# Altium integrated library Linear Technology Power Management LDO Linear Regulators.IntLib: 2339 symbols (part 100 of 131)
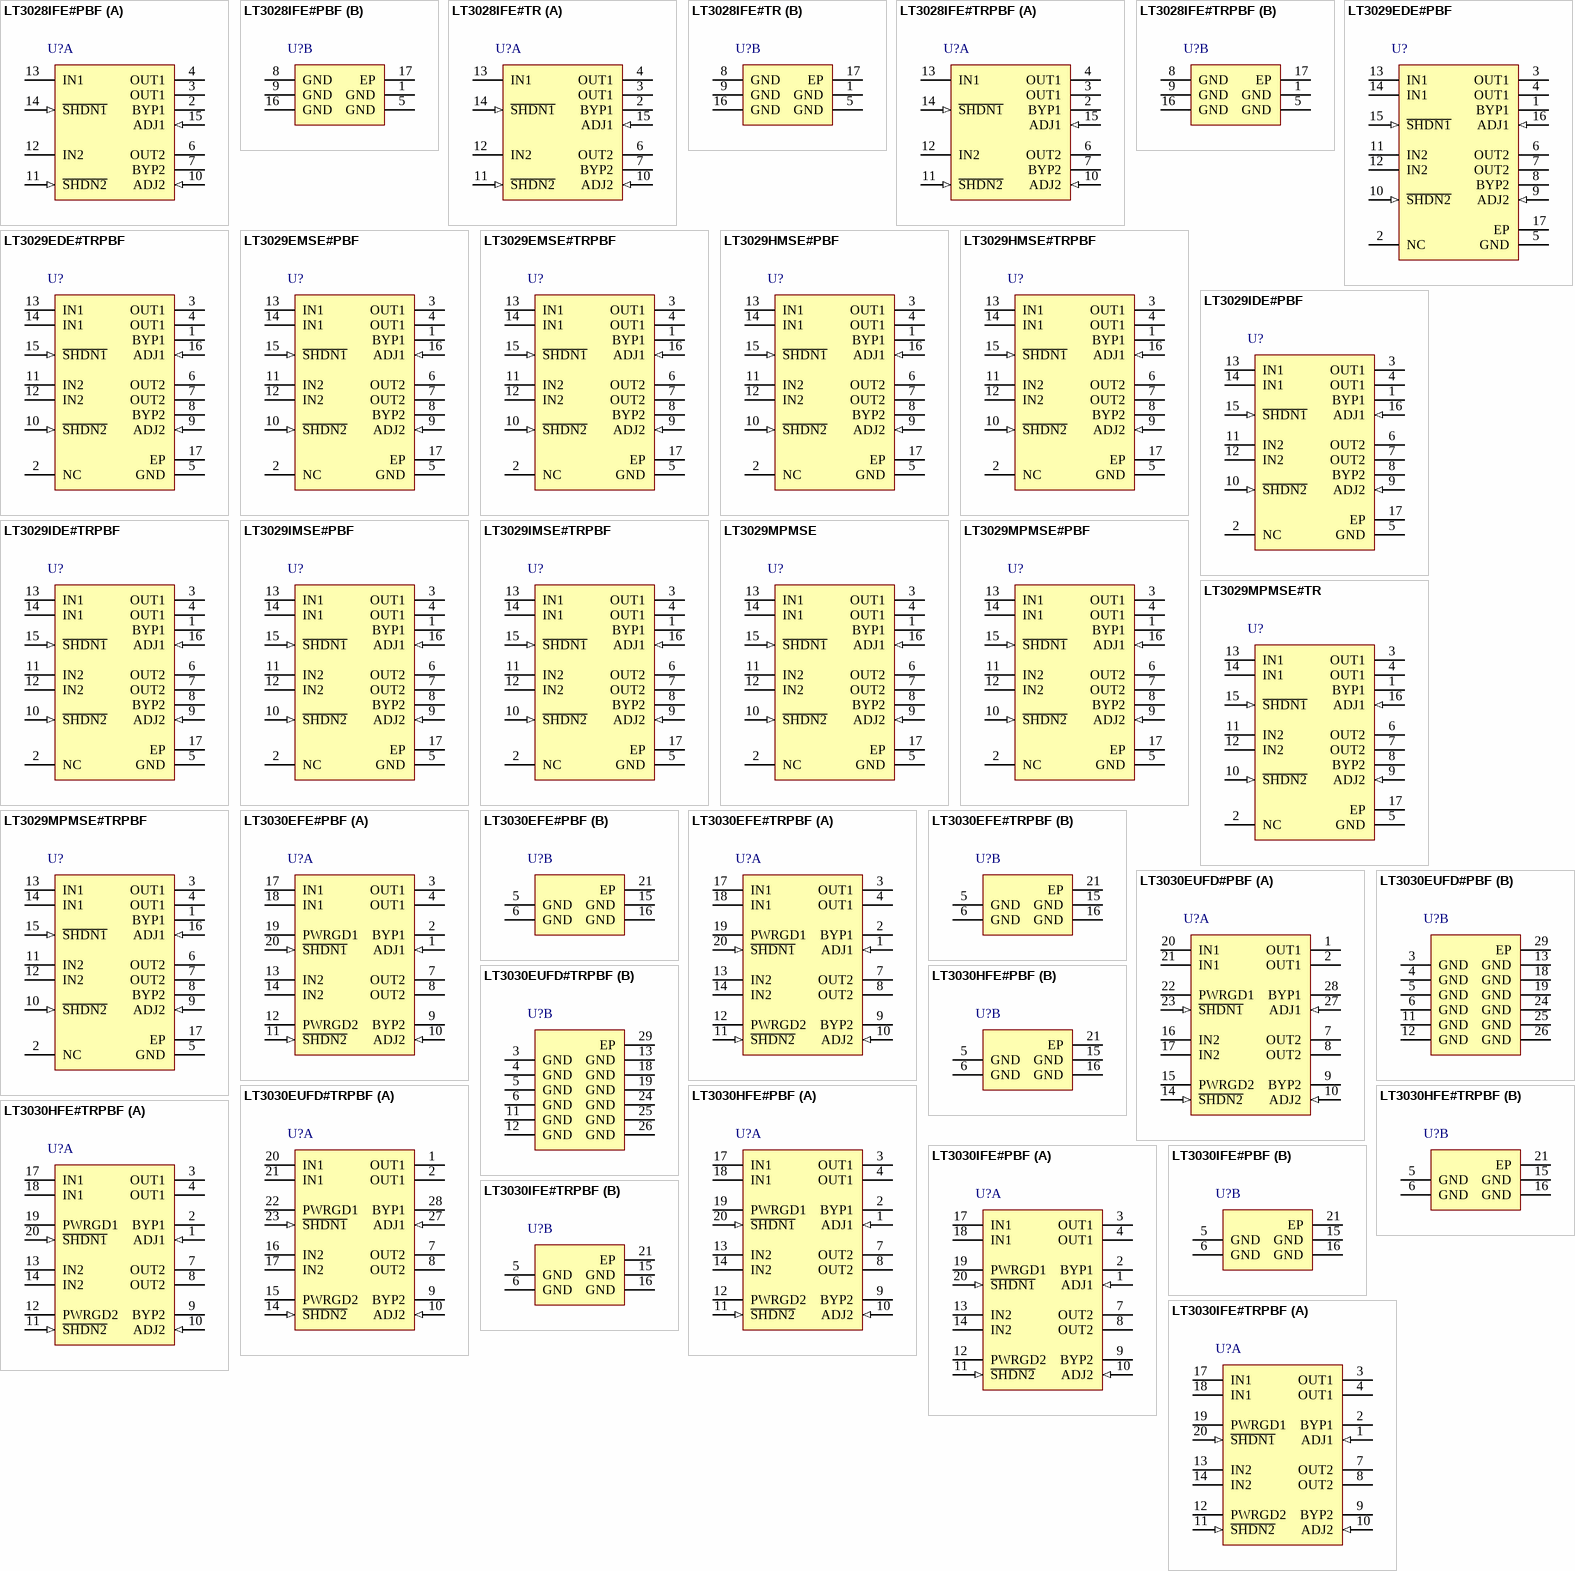
[diagram p168: symbols LT3028IFE#PBF to LT3030IFE#TRPBF]

## LT3028IFE#TRPBF
designator U?
Dual 100 mA / 500 mA Low Dropout, Low Noise, Micropower Regulator with Independent Inputs, 1.8 to 20 V Vin, Adjustable Vout, 16-pin SOP (FE-16-EPV-BB), -40 to 125 degC, Pb-Free, Tape and Reel; Manufacturer: Linear Technology; PartNumber: LT3028IFE#TRPBF; Discrete Pass Element: no; Dropout Voltage(V): 0.32; Iout(mA): 500; Isupply(mA): 0.03; Noise(uV): 20; Number of Outputs: 2; Output Voltage: Adj; PSRR(dB): 65; Shutdown Current(uA): 0.01; Vin Min(V): 1.8; Vout Min(V): 1.22; PackageVersion: Rev. J, 11/2012; PackageReference: FE-16; PackageDescription: 16-Pin Plastic TSSOP, Body 5 x 4.4 mm, Pitch 0.65 mm; Supplier 1: Digi-Key; Supplier Part Number 1: LT3028IFE#TRPBF-ND; Packing: Tape and Reel; RoHS: TRUE; Vin Max(V): 20; Vout Max(V): 20; Mounting Technology: Surface Mount; ComponentLink1Description: Manufacturer URL; ComponentLink1URL: http://www.linear.com/; ComponentLink2Description: Datasheet; ComponentLink2URL: http://cds.linear.com/docs/en/datasheet/3028f.pdf; ComponentLink3Description: Package Specification; ComponentLink3URL: http://cds.linear.com/docs/en/packaging/05081663__J_FE16(BB).pdf
footprint LT-FE-16-EPV-BB_N (SOP, 16-Leads, Body 5.1x4.5mm, Pitch 0.65mm, Thermal Pad 3.58x2.94mm, IPC Medium Density)
footprint LT-FE-16-EPV-BB_L (SOP, 16-Leads, Body 5.1x4.5mm, Pitch 0.65mm, Thermal Pad 3.58x2.94mm, IPC High Density)
footprint LT-FE-16-EPV-BB_M (SOP, 16-Leads, Body 5.1x4.5mm, Pitch 0.65mm, Thermal Pad 3.58x2.94mm, IPC Low Density)
part A pins: 2 BYP1 "Bypass. The BYP1/BYP2 pins are used to bypass the reference of the LT3028 regulator to achieve low noise performance from the regulator. The BYP1/BYP2 pins are clamped internally to +/-0.6V (one VBE) from ground. A small (See Datasheet)", 3 OUT1 (power) "Output. The outputs supply power to the loads. A minimum output capacitor of 1uF is required to prevent oscillations on Output 2; Output 1 requires a minimum of 3.3uF. Larger output capacitors will be required for (See Datasheet)", 4 OUT1 (power) "Output. The outputs supply power to the loads. A minimum output capacitor of 1uF is required to prevent oscillations on Output 2; Output 1 requires a minimum of 3.3uF. Larger output capacitors will be required for (See Datasheet)", 6 OUT2 (power) "Output. The outputs supply power to the loads. A minimum output capacitor of 1uF is required to prevent oscillations on Output 2; Output 1 requires a minimum of 3.3uF. Larger output capacitors will be required for (See Datasheet)", 7 BYP2 "Bypass. The BYP1/BYP2 pins are used to bypass the reference of the LT3028 regulator to achieve low noise performance from the regulator. The BYP1/BYP2 pins are clamped internally to +/-0.6V (one VBE) from ground. A small (See Datasheet)", 10 ADJ2 (in) "Adjust Pin. These are the inputs to the error amplifiers. These pins are internally clamped to +/-7V. They have a bias current of 30nA which flows into the pin (see curve of ADJ1/ADJ2 Pin Bias Current vs Temperature in the (See Datasheet)", 11 ~{SHDN2} (in) "Shutdown. The S\H\D\N\1\/S\H\D\N\2\ pins are used to put the corresponding output of the LT3028 regulator into a low power shutdown state. The output will be off when the pin is pulled low. The S\H\D\N\1\/S\H\D\N\2\ pins can (See Datasheet)", 12 IN2 (power) "Inputs. Power is supplied to the device through the IN pins. A bypass capacitor is required on these pins if the device is more than six inches away from the main input filter capacitor. In general, the output impedance of a (See Datasheet)", 13 IN1 (power) "Inputs. Power is supplied to the device through the IN pins. A bypass capacitor is required on these pins if the device is more than six inches away from the main input filter capacitor. In general, the output impedance of a (See Datasheet)", 14 ~{SHDN1} (in) "Shutdown. The S\H\D\N\1\/S\H\D\N\2\ pins are used to put the corresponding output of the LT3028 regulator into a low power shutdown state. The output will be off when the pin is pulled low. The S\H\D\N\1\/S\H\D\N\2\ pins can (See Datasheet)", 15 ADJ1 (in) "Adjust Pin. These are the inputs to the error amplifiers. These pins are internally clamped to +/-7V. They have a bias current of 30nA which flows into the pin (see curve of ADJ1/ADJ2 Pin Bias Current vs Temperature in the (See Datasheet)"
part B pins: 1 GND (power) "Ground.", 5 GND (power) "Ground.", 8 GND (power) "Ground.", 9 GND (power) "Ground.", 16 GND (power) "Ground.", 17 EP (power) "Ground. The Exposed Pad must be soldered to PCB ground for optimum thermal performance."

## LT3029EDE#PBF
designator U?
Dual 500 mA / 500 mA Low Dropout, Low Noise Micropower Linear Regulator, 1.8 to 20 V Vin, Adjustable Vout, 16-pin SON (DE-16), -40 to 125 degC, Pb-Free; Manufacturer: Linear Technology; PartNumber: LT3029EDE#PBF; Discrete Pass Element: no; Dropout Voltage(V): 0.3; Iout(mA): 500; Isupply(mA): 0.055; Noise(uV): 20; Number of Outputs: 2; Output Voltage: Adj; PSRR(dB): 67; Shutdown Current(uA): 0.6; Vin Min(V): 1.8; Vout Max(V): 19.5; Vout Min(V): 1.215; DatasheetVersion: Rev. A; PackageVersion: Rev. Ø, 06/2010; PackageReference: DE-16; PackageDescription: 16-Pin Plastic DFN, Body 4 x 3 mm, Pitch 0.45 mm; Supplier 1: Digi-Key; Supplier Part Number 1: LT3029EDE#PBF-ND; Supplier 2: Farnell; Supplier Part Number 2: 1839122; Supplier 3: Newark; Supplier Part Number 3: 64R6814; RoHS: TRUE; Vin Max(V): 20; Mounting Technology: Surface Mount; Code_JEDEC: MO-229; ComponentLink1Description: Manufacturer URL; ComponentLink1URL: http://www.linear.com/; ComponentLink2Description: Datasheet; ComponentLink2URL: http://cds.linear.com/docs/en/datasheet/3029fa.pdf; ComponentLink3Description: Package Specification; ComponentLink3URL: http://cds.linear.com/docs/en/packaging/DFN_16_05-08-1732.pdf
footprint LT-DE-16_V (SON, 16-Leads, Body 4x3mm, Pitch 0.45mm, Thermal Pad 3.3x1.7mm)
pins: 1 BYP1, 2 NC, 3 OUT1 (power), 4 OUT1 (power), 5 GND (power), 6 OUT2 (power), 7 OUT2 (power), 8 BYP2, 9 ADJ2 (in), 10 ~{SHDN2} (in), 11 IN2 (power), 12 IN2 (power), 13 IN1 (power), 14 IN1 (power), 15 ~{SHDN1} (in), 16 ADJ1 (in), 17 EP (power)

## LT3029EDE#TRPBF
designator U?
Dual 500 mA / 500 mA Low Dropout, Low Noise Micropower Linear Regulator, 1.8 to 20 V Vin, Adjustable Vout, 16-pin SON (DE-16), -40 to 125 degC, Pb-Free, Tape and Reel; Manufacturer: Linear Technology; PartNumber: LT3029EDE#TRPBF; Discrete Pass Element: no; Dropout Voltage(V): 0.3; Iout(mA): 500; Isupply(mA): 0.055; Noise(uV): 20; Number of Outputs: 2; Output Voltage: Adj; PSRR(dB): 67; Shutdown Current(uA): 0.6; Vin Min(V): 1.8; Vout Max(V): 19.5; Vout Min(V): 1.215; DatasheetVersion: Rev. A; PackageVersion: Rev. Ø, 06/2010; PackageReference: DE-16; PackageDescription: 16-Pin Plastic DFN, Body 4 x 3 mm, Pitch 0.45 mm; Supplier 1: Digi-Key; Supplier Part Number 1: LT3029EDE#TRPBF-ND; Supplier 2: Newark; Supplier Part Number 2: 64R6815; Packing: Tape and Reel; RoHS: TRUE; Vin Max(V): 20; Mounting Technology: Surface Mount; Code_JEDEC: MO-229; ComponentLink1Description: Manufacturer URL; ComponentLink1URL: http://www.linear.com/; ComponentLink2Description: Datasheet; ComponentLink2URL: http://cds.linear.com/docs/en/datasheet/3029fa.pdf; ComponentLink3Description: Package Specification; ComponentLink3URL: http://cds.linear.com/docs/en/packaging/DFN_16_05-08-1732.pdf
footprint LT-DE-16_V (SON, 16-Leads, Body 4x3mm, Pitch 0.45mm, Thermal Pad 3.3x1.7mm)
pins: 1 BYP1, 2 NC, 3 OUT1 (power), 4 OUT1 (power), 5 GND (power), 6 OUT2 (power), 7 OUT2 (power), 8 BYP2, 9 ADJ2 (in), 10 ~{SHDN2} (in), 11 IN2 (power), 12 IN2 (power), 13 IN1 (power), 14 IN1 (power), 15 ~{SHDN1} (in), 16 ADJ1 (in), 17 EP (power)

## LT3029EMSE#PBF
designator U?
Dual 500 mA / 500 mA Low Dropout, Low Noise Micropower Linear Regulator, 1.8 to 20 V Vin, Adjustable Vout, 16-pin SOP (MSE-16-EDP), -40 to 125 degC, Pb-Free; Manufacturer: Linear Technology; PartNumber: LT3029EMSE#PBF; Discrete Pass Element: no; Dropout Voltage(V): 0.3; Iout(mA): 500; Isupply(mA): 0.055; Noise(uV): 20; Number of Outputs: 2; Output Voltage: Adj; PSRR(dB): 67; Shutdown Current(uA): 0.6; Vin Min(V): 1.8; Vout Max(V): 19.5; Vout Min(V): 1.215; DatasheetVersion: Rev. A; PackageVersion: Rev. F, 05/2013; PackageReference: MSE-16; PackageDescription: 16-Pin Plastic MSOP, Exposed Die Pad, Body 4.039 x 3 mm, Pitch 0.5 mm; Supplier 1: Digi-Key; Supplier Part Number 1: LT3029EMSE#PBF-ND; Supplier 2: Farnell; Supplier Part Number 2: 1839124; Supplier 3: Newark; Supplier Part Number 3: 64R6816; RoHS: TRUE; Vin Max(V): 20; Mounting Technology: Surface Mount; ComponentLink1Description: Manufacturer URL; ComponentLink1URL: http://www.linear.com/; ComponentLink2Description: Datasheet; ComponentLink2URL: http://cds.linear.com/docs/en/datasheet/3029fa.pdf; ComponentLink3Description: Package Specification; ComponentLink3URL: http://cds.linear.com/docs/en/packaging/05081667_F_MSE16.pdf
footprint LT-MSE-16-EDP_N (SOP, 16-Leads, Body 4.039x3mm, Pitch 0.5mm, Thermal Pad 2.95x1.76mm, IPC Medium Density)
footprint LT-MSE-16-EDP_L (SOP, 16-Leads, Body 4.039x3mm, Pitch 0.5mm, Thermal Pad 2.95x1.76mm, IPC High Density)
footprint LT-MSE-16-EDP_M (SOP, 16-Leads, Body 4.039x3mm, Pitch 0.5mm, Thermal Pad 2.95x1.76mm, IPC Low Density)
pins: 1 BYP1, 2 NC, 3 OUT1 (power), 4 OUT1 (power), 5 GND (power), 6 OUT2 (power), 7 OUT2 (power), 8 BYP2, 9 ADJ2 (in), 10 ~{SHDN2} (in), 11 IN2 (power), 12 IN2 (power), 13 IN1 (power), 14 IN1 (power), 15 ~{SHDN1} (in), 16 ADJ1 (in), 17 EP (power)

## LT3029EMSE#TRPBF
designator U?
Dual 500 mA / 500 mA Low Dropout, Low Noise Micropower Linear Regulator, 1.8 to 20 V Vin, Adjustable Vout, 16-pin SOP (MSE-16-EDP), -40 to 125 degC, Pb-Free, Tape and Reel; Manufacturer: Linear Technology; PartNumber: LT3029EMSE#TRPBF; Discrete Pass Element: no; Dropout Voltage(V): 0.3; Iout(mA): 500; Isupply(mA): 0.055; Noise(uV): 20; Number of Outputs: 2; Output Voltage: Adj; PSRR(dB): 67; Shutdown Current(uA): 0.6; Vin Min(V): 1.8; Vout Max(V): 19.5; Vout Min(V): 1.215; DatasheetVersion: Rev. A; PackageVersion: Rev. F, 05/2013; PackageReference: MSE-16; PackageDescription: 16-Pin Plastic MSOP, Exposed Die Pad, Body 4.039 x 3 mm, Pitch 0.5 mm; Supplier 1: Digi-Key; Supplier Part Number 1: LT3029EMSE#TRPBF-ND; Supplier 2: Newark; Supplier Part Number 2: 64R6817; Packing: Tape and Reel; RoHS: TRUE; Vin Max(V): 20; Mounting Technology: Surface Mount; ComponentLink1Description: Manufacturer URL; ComponentLink1URL: http://www.linear.com/; ComponentLink2Description: Datasheet; ComponentLink2URL: http://cds.linear.com/docs/en/datasheet/3029fa.pdf; ComponentLink3Description: Package Specification; ComponentLink3URL: http://cds.linear.com/docs/en/packaging/05081667_F_MSE16.pdf
footprint LT-MSE-16-EDP_N (SOP, 16-Leads, Body 4.039x3mm, Pitch 0.5mm, Thermal Pad 2.95x1.76mm, IPC Medium Density)
footprint LT-MSE-16-EDP_L (SOP, 16-Leads, Body 4.039x3mm, Pitch 0.5mm, Thermal Pad 2.95x1.76mm, IPC High Density)
footprint LT-MSE-16-EDP_M (SOP, 16-Leads, Body 4.039x3mm, Pitch 0.5mm, Thermal Pad 2.95x1.76mm, IPC Low Density)
pins: 1 BYP1, 2 NC, 3 OUT1 (power), 4 OUT1 (power), 5 GND (power), 6 OUT2 (power), 7 OUT2 (power), 8 BYP2, 9 ADJ2 (in), 10 ~{SHDN2} (in), 11 IN2 (power), 12 IN2 (power), 13 IN1 (power), 14 IN1 (power), 15 ~{SHDN1} (in), 16 ADJ1 (in), 17 EP (power)

## LT3029HMSE#PBF
designator U?
Dual 500 mA / 500 mA Low Dropout, Low Noise Micropower Linear Regulator, 1.8 to 20 V Vin, Adjustable Vout, 16-pin SOP (MSE-16-EDP), -40 to 150 degC, Pb-Free; Manufacturer: Linear Technology; PartNumber: LT3029HMSE#PBF; Discrete Pass Element: no; Dropout Voltage(V): 0.3; Iout(mA): 500; Isupply(mA): 0.055; Noise(uV): 20; Number of Outputs: 2; Output Voltage: Adj; PSRR(dB): 67; Shutdown Current(uA): 0.6; Vin Min(V): 1.8; Vout Max(V): 19.5; Vout Min(V): 1.215; DatasheetVersion: Rev. A; PackageVersion: Rev. F, 05/2013; PackageReference: MSE-16; PackageDescription: 16-Pin Plastic MSOP, Exposed Die Pad, Body 4.039 x 3 mm, Pitch 0.5 mm; Supplier 1: Digi-Key; Supplier Part Number 1: LT3029HMSE#PBF-ND; Supplier 2: Farnell; Supplier Part Number 2: 2295262; Supplier 3: Newark; Supplier Part Number 3: 64R6818; RoHS: TRUE; Vin Max(V): 20; Mounting Technology: Surface Mount; ComponentLink1Description: Manufacturer URL; ComponentLink1URL: http://www.linear.com/; ComponentLink2Description: Datasheet; ComponentLink2URL: http://cds.linear.com/docs/en/datasheet/3029fa.pdf; ComponentLink3Description: Package Specification; ComponentLink3URL: http://cds.linear.com/docs/en/packaging/05081667_F_MSE16.pdf
footprint LT-MSE-16-EDP_N (SOP, 16-Leads, Body 4.039x3mm, Pitch 0.5mm, Thermal Pad 2.95x1.76mm, IPC Medium Density)
footprint LT-MSE-16-EDP_L (SOP, 16-Leads, Body 4.039x3mm, Pitch 0.5mm, Thermal Pad 2.95x1.76mm, IPC High Density)
footprint LT-MSE-16-EDP_M (SOP, 16-Leads, Body 4.039x3mm, Pitch 0.5mm, Thermal Pad 2.95x1.76mm, IPC Low Density)
pins: 1 BYP1, 2 NC, 3 OUT1 (power), 4 OUT1 (power), 5 GND (power), 6 OUT2 (power), 7 OUT2 (power), 8 BYP2, 9 ADJ2 (in), 10 ~{SHDN2} (in), 11 IN2 (power), 12 IN2 (power), 13 IN1 (power), 14 IN1 (power), 15 ~{SHDN1} (in), 16 ADJ1 (in), 17 EP (power)

## LT3029HMSE#TRPBF
designator U?
Dual 500 mA / 500 mA Low Dropout, Low Noise Micropower Linear Regulator, 1.8 to 20 V Vin, Adjustable Vout, 16-pin SOP (MSE-16-EDP), -40 to 150 degC, Pb-Free, Tape and Reel; Manufacturer: Linear Technology; PartNumber: LT3029HMSE#TRPBF; Discrete Pass Element: no; Dropout Voltage(V): 0.3; Iout(mA): 500; Isupply(mA): 0.055; Noise(uV): 20; Number of Outputs: 2; Output Voltage: Adj; PSRR(dB): 67; Shutdown Current(uA): 0.6; Vin Min(V): 1.8; Vout Max(V): 19.5; Vout Min(V): 1.215; DatasheetVersion: Rev. A; PackageVersion: Rev. F, 05/2013; PackageReference: MSE-16; PackageDescription: 16-Pin Plastic MSOP, Exposed Die Pad, Body 4.039 x 3 mm, Pitch 0.5 mm; Supplier 1: Digi-Key; Supplier Part Number 1: LT3029HMSE#TRPBF-ND; Packing: Tape and Reel; RoHS: TRUE; Vin Max(V): 20; Mounting Technology: Surface Mount; ComponentLink1Description: Manufacturer URL; ComponentLink1URL: http://www.linear.com/; ComponentLink2Description: Datasheet; ComponentLink2URL: http://cds.linear.com/docs/en/datasheet/3029fa.pdf; ComponentLink3Description: Package Specification; ComponentLink3URL: http://cds.linear.com/docs/en/packaging/05081667_F_MSE16.pdf
footprint LT-MSE-16-EDP_N (SOP, 16-Leads, Body 4.039x3mm, Pitch 0.5mm, Thermal Pad 2.95x1.76mm, IPC Medium Density)
footprint LT-MSE-16-EDP_L (SOP, 16-Leads, Body 4.039x3mm, Pitch 0.5mm, Thermal Pad 2.95x1.76mm, IPC High Density)
footprint LT-MSE-16-EDP_M (SOP, 16-Leads, Body 4.039x3mm, Pitch 0.5mm, Thermal Pad 2.95x1.76mm, IPC Low Density)
pins: 1 BYP1, 2 NC, 3 OUT1 (power), 4 OUT1 (power), 5 GND (power), 6 OUT2 (power), 7 OUT2 (power), 8 BYP2, 9 ADJ2 (in), 10 ~{SHDN2} (in), 11 IN2 (power), 12 IN2 (power), 13 IN1 (power), 14 IN1 (power), 15 ~{SHDN1} (in), 16 ADJ1 (in), 17 EP (power)

## LT3029IDE#PBF
designator U?
Dual 500 mA / 500 mA Low Dropout, Low Noise Micropower Linear Regulator, 1.8 to 20 V Vin, Adjustable Vout, 16-pin SON (DE-16), -40 to 125 degC, Pb-Free; Manufacturer: Linear Technology; PartNumber: LT3029IDE#PBF; Discrete Pass Element: no; Dropout Voltage(V): 0.3; Iout(mA): 500; Isupply(mA): 0.055; Noise(uV): 20; Number of Outputs: 2; Output Voltage: Adj; PSRR(dB): 67; Shutdown Current(uA): 0.6; Vin Min(V): 1.8; Vout Max(V): 19.5; Vout Min(V): 1.215; DatasheetVersion: Rev. A; PackageVersion: Rev. Ø, 06/2010; PackageReference: DE-16; PackageDescription: 16-Pin Plastic DFN, Body 4 x 3 mm, Pitch 0.45 mm; Supplier 1: Digi-Key; Supplier Part Number 1: LT3029IDE#PBF-ND; Supplier 2: Farnell; Supplier Part Number 2: 2295263; Supplier 3: Newark; Supplier Part Number 3: 64R6820; RoHS: TRUE; Vin Max(V): 20; Mounting Technology: Surface Mount; Code_JEDEC: MO-229; ComponentLink1Description: Manufacturer URL; ComponentLink1URL: http://www.linear.com/; ComponentLink2Description: Datasheet; ComponentLink2URL: http://cds.linear.com/docs/en/datasheet/3029fa.pdf; ComponentLink3Description: Package Specification; ComponentLink3URL: http://cds.linear.com/docs/en/packaging/DFN_16_05-08-1732.pdf
footprint LT-DE-16_V (SON, 16-Leads, Body 4x3mm, Pitch 0.45mm, Thermal Pad 3.3x1.7mm)
pins: 1 BYP1, 2 NC, 3 OUT1 (power), 4 OUT1 (power), 5 GND (power), 6 OUT2 (power), 7 OUT2 (power), 8 BYP2, 9 ADJ2 (in), 10 ~{SHDN2} (in), 11 IN2 (power), 12 IN2 (power), 13 IN1 (power), 14 IN1 (power), 15 ~{SHDN1} (in), 16 ADJ1 (in), 17 EP (power)

## LT3029IDE#TRPBF
designator U?
Dual 500 mA / 500 mA Low Dropout, Low Noise Micropower Linear Regulator, 1.8 to 20 V Vin, Adjustable Vout, 16-pin SON (DE-16), -40 to 125 degC, Pb-Free, Tape and Reel; Manufacturer: Linear Technology; PartNumber: LT3029IDE#TRPBF; Discrete Pass Element: no; Dropout Voltage(V): 0.3; Iout(mA): 500; Isupply(mA): 0.055; Noise(uV): 20; Number of Outputs: 2; Output Voltage: Adj; PSRR(dB): 67; Shutdown Current(uA): 0.6; Vin Min(V): 1.8; Vout Max(V): 19.5; Vout Min(V): 1.215; DatasheetVersion: Rev. A; PackageVersion: Rev. Ø, 06/2010; PackageReference: DE-16; PackageDescription: 16-Pin Plastic DFN, Body 4 x 3 mm, Pitch 0.45 mm; Supplier 1: Digi-Key; Supplier Part Number 1: LT3029IDE#TRPBF-ND; Supplier 2: Newark; Supplier Part Number 2: 64R6821; Packing: Tape and Reel; RoHS: TRUE; Vin Max(V): 20; Mounting Technology: Surface Mount; Code_JEDEC: MO-229; ComponentLink1Description: Manufacturer URL; ComponentLink1URL: http://www.linear.com/; ComponentLink2Description: Datasheet; ComponentLink2URL: http://cds.linear.com/docs/en/datasheet/3029fa.pdf; ComponentLink3Description: Package Specification; ComponentLink3URL: http://cds.linear.com/docs/en/packaging/DFN_16_05-08-1732.pdf
footprint LT-DE-16_V (SON, 16-Leads, Body 4x3mm, Pitch 0.45mm, Thermal Pad 3.3x1.7mm)
pins: 1 BYP1, 2 NC, 3 OUT1 (power), 4 OUT1 (power), 5 GND (power), 6 OUT2 (power), 7 OUT2 (power), 8 BYP2, 9 ADJ2 (in), 10 ~{SHDN2} (in), 11 IN2 (power), 12 IN2 (power), 13 IN1 (power), 14 IN1 (power), 15 ~{SHDN1} (in), 16 ADJ1 (in), 17 EP (power)

## LT3029IMSE#PBF
designator U?
Dual 500 mA / 500 mA Low Dropout, Low Noise Micropower Linear Regulator, 1.8 to 20 V Vin, Adjustable Vout, 16-pin SOP (MSE-16-EDP), -40 to 125 degC, Pb-Free; Manufacturer: Linear Technology; PartNumber: LT3029IMSE#PBF; Discrete Pass Element: no; Dropout Voltage(V): 0.3; Iout(mA): 500; Isupply(mA): 0.055; Noise(uV): 20; Number of Outputs: 2; Output Voltage: Adj; PSRR(dB): 67; Shutdown Current(uA): 0.6; Vin Min(V): 1.8; Vout Max(V): 19.5; Vout Min(V): 1.215; DatasheetVersion: Rev. A; PackageVersion: Rev. F, 05/2013; PackageReference: MSE-16; PackageDescription: 16-Pin Plastic MSOP, Exposed Die Pad, Body 4.039 x 3 mm, Pitch 0.5 mm; Supplier 1: Digi-Key; Supplier Part Number 1: LT3029IMSE#PBF-ND; Supplier 2: Newark; Supplier Part Number 2: 64R6822; RoHS: TRUE; Vin Max(V): 20; Mounting Technology: Surface Mount; ComponentLink1Description: Manufacturer URL; ComponentLink1URL: http://www.linear.com/; ComponentLink2Description: Datasheet; ComponentLink2URL: http://cds.linear.com/docs/en/datasheet/3029fa.pdf; ComponentLink3Description: Package Specification; ComponentLink3URL: http://cds.linear.com/docs/en/packaging/05081667_F_MSE16.pdf
footprint LT-MSE-16-EDP_N (SOP, 16-Leads, Body 4.039x3mm, Pitch 0.5mm, Thermal Pad 2.95x1.76mm, IPC Medium Density)
footprint LT-MSE-16-EDP_L (SOP, 16-Leads, Body 4.039x3mm, Pitch 0.5mm, Thermal Pad 2.95x1.76mm, IPC High Density)
footprint LT-MSE-16-EDP_M (SOP, 16-Leads, Body 4.039x3mm, Pitch 0.5mm, Thermal Pad 2.95x1.76mm, IPC Low Density)
pins: 1 BYP1, 2 NC, 3 OUT1 (power), 4 OUT1 (power), 5 GND (power), 6 OUT2 (power), 7 OUT2 (power), 8 BYP2, 9 ADJ2 (in), 10 ~{SHDN2} (in), 11 IN2 (power), 12 IN2 (power), 13 IN1 (power), 14 IN1 (power), 15 ~{SHDN1} (in), 16 ADJ1 (in), 17 EP (power)

## LT3029IMSE#TRPBF
designator U?
Dual 500 mA / 500 mA Low Dropout, Low Noise Micropower Linear Regulator, 1.8 to 20 V Vin, Adjustable Vout, 16-pin SOP (MSE-16-EDP), -40 to 125 degC, Pb-Free, Tape and Reel; Manufacturer: Linear Technology; PartNumber: LT3029IMSE#TRPBF; Discrete Pass Element: no; Dropout Voltage(V): 0.3; Iout(mA): 500; Isupply(mA): 0.055; Noise(uV): 20; Number of Outputs: 2; Output Voltage: Adj; PSRR(dB): 67; Shutdown Current(uA): 0.6; Vin Min(V): 1.8; Vout Max(V): 19.5; Vout Min(V): 1.215; DatasheetVersion: Rev. A; PackageVersion: Rev. F, 05/2013; PackageReference: MSE-16; PackageDescription: 16-Pin Plastic MSOP, Exposed Die Pad, Body 4.039 x 3 mm, Pitch 0.5 mm; Supplier 1: Digi-Key; Supplier Part Number 1: LT3029IMSE#TRPBF-ND; Packing: Tape and Reel; RoHS: TRUE; Vin Max(V): 20; Mounting Technology: Surface Mount; ComponentLink1Description: Manufacturer URL; ComponentLink1URL: http://www.linear.com/; ComponentLink2Description: Datasheet; ComponentLink2URL: http://cds.linear.com/docs/en/datasheet/3029fa.pdf; ComponentLink3Description: Package Specification; ComponentLink3URL: http://cds.linear.com/docs/en/packaging/05081667_F_MSE16.pdf
footprint LT-MSE-16-EDP_N (SOP, 16-Leads, Body 4.039x3mm, Pitch 0.5mm, Thermal Pad 2.95x1.76mm, IPC Medium Density)
footprint LT-MSE-16-EDP_L (SOP, 16-Leads, Body 4.039x3mm, Pitch 0.5mm, Thermal Pad 2.95x1.76mm, IPC High Density)
footprint LT-MSE-16-EDP_M (SOP, 16-Leads, Body 4.039x3mm, Pitch 0.5mm, Thermal Pad 2.95x1.76mm, IPC Low Density)
pins: 1 BYP1, 2 NC, 3 OUT1 (power), 4 OUT1 (power), 5 GND (power), 6 OUT2 (power), 7 OUT2 (power), 8 BYP2, 9 ADJ2 (in), 10 ~{SHDN2} (in), 11 IN2 (power), 12 IN2 (power), 13 IN1 (power), 14 IN1 (power), 15 ~{SHDN1} (in), 16 ADJ1 (in), 17 EP (power)

## LT3029MPMSE
designator U?
Dual 500 mA / 500 mA Low Dropout, Low Noise Micropower Linear Regulator, 1.8 to 20 V Vin, Adjustable Vout, 16-pin SOP (MSE-16-EDP), -55 to 125 degC; Manufacturer: Linear Technology; PartNumber: LT3029MPMSE; Discrete Pass Element: no; Dropout Voltage(V): 0.3; Iout(mA): 500; Isupply(mA): 0.055; Noise(uV): 20; Number of Outputs: 2; Output Voltage: Adj; PSRR(dB): 67; Shutdown Current(uA): 0.6; Vin Min(V): 1.8; Vout Max(V): 19.5; Vout Min(V): 1.215; DatasheetVersion: Rev. A; PackageVersion: Rev. F, 05/2013; PackageReference: MSE-16; PackageDescription: 16-Pin Plastic MSOP, Exposed Die Pad, Body 4.039 x 3 mm, Pitch 0.5 mm; Supplier 1: Digi-Key; Supplier Part Number 1: LT3029MPMSE-ND; RoHS: FALSE; Vin Max(V): 20; Mounting Technology: Surface Mount; ComponentLink1Description: Manufacturer URL; ComponentLink1URL: http://www.linear.com/; ComponentLink2Description: Datasheet; ComponentLink2URL: http://cds.linear.com/docs/en/datasheet/3029fa.pdf; ComponentLink3Description: Package Specification; ComponentLink3URL: http://cds.linear.com/docs/en/packaging/05081667_F_MSE16.pdf
footprint LT-MSE-16-EDP_N (SOP, 16-Leads, Body 4.039x3mm, Pitch 0.5mm, Thermal Pad 2.95x1.76mm, IPC Medium Density)
footprint LT-MSE-16-EDP_L (SOP, 16-Leads, Body 4.039x3mm, Pitch 0.5mm, Thermal Pad 2.95x1.76mm, IPC High Density)
footprint LT-MSE-16-EDP_M (SOP, 16-Leads, Body 4.039x3mm, Pitch 0.5mm, Thermal Pad 2.95x1.76mm, IPC Low Density)
pins: 1 BYP1, 2 NC, 3 OUT1 (power), 4 OUT1 (power), 5 GND (power), 6 OUT2 (power), 7 OUT2 (power), 8 BYP2, 9 ADJ2 (in), 10 ~{SHDN2} (in), 11 IN2 (power), 12 IN2 (power), 13 IN1 (power), 14 IN1 (power), 15 ~{SHDN1} (in), 16 ADJ1 (in), 17 EP (power)

## LT3029MPMSE#PBF
designator U?
Dual 500 mA / 500 mA Low Dropout, Low Noise Micropower Linear Regulator, 1.8 to 20 V Vin, Adjustable Vout, 16-pin SOP (MSE-16-EDP), -55 to 125 degC, Pb-Free; Manufacturer: Linear Technology; PartNumber: LT3029MPMSE#PBF; Discrete Pass Element: no; Dropout Voltage(V): 0.3; Iout(mA): 500; Isupply(mA): 0.055; Noise(uV): 20; Number of Outputs: 2; Output Voltage: Adj; PSRR(dB): 67; Shutdown Current(uA): 0.6; Vin Min(V): 1.8; Vout Max(V): 19.5; Vout Min(V): 1.215; DatasheetVersion: Rev. A; PackageVersion: Rev. F, 05/2013; PackageReference: MSE-16; PackageDescription: 16-Pin Plastic MSOP, Exposed Die Pad, Body 4.039 x 3 mm, Pitch 0.5 mm; Supplier 1: Digi-Key; Supplier Part Number 1: LT3029MPMSE#PBF-ND; Supplier 2: Farnell; Supplier Part Number 2: 1839125; Supplier 3: Newark; Supplier Part Number 3: 64R6824; RoHS: TRUE; Vin Max(V): 20; Mounting Technology: Surface Mount; ComponentLink1Description: Manufacturer URL; ComponentLink1URL: http://www.linear.com/; ComponentLink2Description: Datasheet; ComponentLink2URL: http://cds.linear.com/docs/en/datasheet/3029fa.pdf; ComponentLink3Description: Package Specification; ComponentLink3URL: http://cds.linear.com/docs/en/packaging/05081667_F_MSE16.pdf
footprint LT-MSE-16-EDP_N (SOP, 16-Leads, Body 4.039x3mm, Pitch 0.5mm, Thermal Pad 2.95x1.76mm, IPC Medium Density)
footprint LT-MSE-16-EDP_L (SOP, 16-Leads, Body 4.039x3mm, Pitch 0.5mm, Thermal Pad 2.95x1.76mm, IPC High Density)
footprint LT-MSE-16-EDP_M (SOP, 16-Leads, Body 4.039x3mm, Pitch 0.5mm, Thermal Pad 2.95x1.76mm, IPC Low Density)
pins: 1 BYP1, 2 NC, 3 OUT1 (power), 4 OUT1 (power), 5 GND (power), 6 OUT2 (power), 7 OUT2 (power), 8 BYP2, 9 ADJ2 (in), 10 ~{SHDN2} (in), 11 IN2 (power), 12 IN2 (power), 13 IN1 (power), 14 IN1 (power), 15 ~{SHDN1} (in), 16 ADJ1 (in), 17 EP (power)

## LT3029MPMSE#TR
designator U?
Dual 500 mA / 500 mA Low Dropout, Low Noise Micropower Linear Regulator, 1.8 to 20 V Vin, Adjustable Vout, 16-pin SOP (MSE-16-EDP), -55 to 125 degC, Tape and Reel; Manufacturer: Linear Technology; PartNumber: LT3029MPMSE#TR; Discrete Pass Element: no; Dropout Voltage(V): 0.3; Iout(mA): 500; Isupply(mA): 0.055; Noise(uV): 20; Number of Outputs: 2; Output Voltage: Adj; PSRR(dB): 67; Shutdown Current(uA): 0.6; Vin Min(V): 1.8; Vout Max(V): 19.5; Vout Min(V): 1.215; DatasheetVersion: Rev. A; PackageVersion: Rev. F, 05/2013; PackageReference: MSE-16; PackageDescription: 16-Pin Plastic MSOP, Exposed Die Pad, Body 4.039 x 3 mm, Pitch 0.5 mm; Supplier 1: Digi-Key; Supplier Part Number 1: LT3029MPMSE#TR-ND; Packing: Tape and Reel; RoHS: FALSE; Vin Max(V): 20; Mounting Technology: Surface Mount; ComponentLink1Description: Manufacturer URL; ComponentLink1URL: http://www.linear.com/; ComponentLink2Description: Datasheet; ComponentLink2URL: http://cds.linear.com/docs/en/datasheet/3029fa.pdf; ComponentLink3Description: Package Specification; ComponentLink3URL: http://cds.linear.com/docs/en/packaging/05081667_F_MSE16.pdf
footprint LT-MSE-16-EDP_N (SOP, 16-Leads, Body 4.039x3mm, Pitch 0.5mm, Thermal Pad 2.95x1.76mm, IPC Medium Density)
footprint LT-MSE-16-EDP_L (SOP, 16-Leads, Body 4.039x3mm, Pitch 0.5mm, Thermal Pad 2.95x1.76mm, IPC High Density)
footprint LT-MSE-16-EDP_M (SOP, 16-Leads, Body 4.039x3mm, Pitch 0.5mm, Thermal Pad 2.95x1.76mm, IPC Low Density)
pins: 1 BYP1, 2 NC, 3 OUT1 (power), 4 OUT1 (power), 5 GND (power), 6 OUT2 (power), 7 OUT2 (power), 8 BYP2, 9 ADJ2 (in), 10 ~{SHDN2} (in), 11 IN2 (power), 12 IN2 (power), 13 IN1 (power), 14 IN1 (power), 15 ~{SHDN1} (in), 16 ADJ1 (in), 17 EP (power)

## LT3029MPMSE#TRPBF
designator U?
Dual 500 mA / 500 mA Low Dropout, Low Noise Micropower Linear Regulator, 1.8 to 20 V Vin, Adjustable Vout, 16-pin SOP (MSE-16-EDP), -55 to 125 degC, Pb-Free, Tape and Reel; Manufacturer: Linear Technology; PartNumber: LT3029MPMSE#TRPBF; Discrete Pass Element: no; Dropout Voltage(V): 0.3; Iout(mA): 500; Isupply(mA): 0.055; Noise(uV): 20; Number of Outputs: 2; Output Voltage: Adj; PSRR(dB): 67; Shutdown Current(uA): 0.6; Vin Min(V): 1.8; Vout Max(V): 19.5; Vout Min(V): 1.215; DatasheetVersion: Rev. A; PackageVersion: Rev. F, 05/2013; PackageReference: MSE-16; PackageDescription: 16-Pin Plastic MSOP, Exposed Die Pad, Body 4.039 x 3 mm, Pitch 0.5 mm; Supplier 1: Digi-Key; Supplier Part Number 1: LT3029MPMSE#TRPBF-ND; Packing: Tape and Reel; RoHS: TRUE; Vin Max(V): 20; Mounting Technology: Surface Mount; ComponentLink1Description: Manufacturer URL; ComponentLink1URL: http://www.linear.com/; ComponentLink2Description: Datasheet; ComponentLink2URL: http://cds.linear.com/docs/en/datasheet/3029fa.pdf; ComponentLink3Description: Package Specification; ComponentLink3URL: http://cds.linear.com/docs/en/packaging/05081667_F_MSE16.pdf
footprint LT-MSE-16-EDP_N (SOP, 16-Leads, Body 4.039x3mm, Pitch 0.5mm, Thermal Pad 2.95x1.76mm, IPC Medium Density)
footprint LT-MSE-16-EDP_L (SOP, 16-Leads, Body 4.039x3mm, Pitch 0.5mm, Thermal Pad 2.95x1.76mm, IPC High Density)
footprint LT-MSE-16-EDP_M (SOP, 16-Leads, Body 4.039x3mm, Pitch 0.5mm, Thermal Pad 2.95x1.76mm, IPC Low Density)
pins: 1 BYP1, 2 NC, 3 OUT1 (power), 4 OUT1 (power), 5 GND (power), 6 OUT2 (power), 7 OUT2 (power), 8 BYP2, 9 ADJ2 (in), 10 ~{SHDN2} (in), 11 IN2 (power), 12 IN2 (power), 13 IN1 (power), 14 IN1 (power), 15 ~{SHDN1} (in), 16 ADJ1 (in), 17 EP (power)

## LT3030EFE#PBF
designator U?
Dual 750 mA / 250 mA Low Dropout, Low Noise, Micropower Linear Regulator, 1.7 to 20 V Vin, Adjustable Vout, 20-pin SOP (FE-20-EPV-CB), -40 to 125 degC, Pb-Free; Manufacturer: Linear Technology; PartNumber: LT3030EFE#PBF; Discrete Pass Element: no; Dropout Voltage(V): 0.3; Iout(mA): 750; Isupply(mA): 15; Noise(uV): 20; Number of Outputs: 2; Output Voltage: Adj; PSRR(dB): 60; Vin Min(V): 1.7; Vout Max(V): 19.5; Vout Min(V): 1.22; DatasheetVersion: Rev. A; PackageVersion: Rev. I, 05/2011; PackageReference: FE-20; PackageDescription: 20-Pin Plastic TSSOP, Body 6.5 x 4.4 mm, Pitch 0.65 mm; Supplier 1: Digi-Key; Supplier Part Number 1: LT3030EFE#PBF-ND; Supplier 2: Farnell; Supplier Part Number 2: 2313414; Supplier 3: Newark; Supplier Part Number 3: 71W8561; RoHS: TRUE; Shutdown Current(uA): 0.3; Vin Max(V): 20; Mounting Technology: Surface Mount; ComponentLink1Description: Manufacturer URL; ComponentLink1URL: http://www.linear.com/; ComponentLink2Description: Datasheet; ComponentLink2URL: http://cds.linear.com/docs/en/datasheet/3030fa.pdf; ComponentLink3Description: Package Specification; ComponentLink3URL: http://cds.linear.com/docs/en/packaging/05081663__J_FE20(CB).pdf
footprint LT-FE-20-EPV-CB_N (SOP, 20-Leads, Body 6.6x4.5mm, Pitch 0.65mm, Thermal Pad 3.86x2.74mm, IPC Medium Density)
footprint LT-FE-20-EPV-CB_L (SOP, 20-Leads, Body 6.6x4.5mm, Pitch 0.65mm, Thermal Pad 3.86x2.74mm, IPC High Density)
footprint LT-FE-20-EPV-CB_M (SOP, 20-Leads, Body 6.6x4.5mm, Pitch 0.65mm, Thermal Pad 3.86x2.74mm, IPC Low Density)
part A pins: 1 ADJ1 (in) "Adjust Pin. These are the error amplifier inputs. These pins are internally clamped to +/-9V. A typical input bias current of 30nA flows into the pins (see curve of ADJ1/ADJ2 Pin Bias Current vs Temperature in the Typical (See Datasheet)", 2 BYP1 "Bypass. Connecting a capacitor between OUT and BYP of a respective channel bypasses the LT3030 reference to achieve low noise performance, improve transient response and soft-start the output. Internal circuitry clamps the (See Datasheet)", 3 OUT1 (power) "Output. The OUT1/OUT2 pins supply power to the loads. A minimum 10uF/3.3uF output capacitor prevents oscillations on OUT1/OUT2. Applications with large output load transients require larger values of output capacitance to (See Datasheet)", 4 OUT1 (power) "Output. The OUT1/OUT2 pins supply power to the loads. A minimum 10uF/3.3uF output capacitor prevents oscillations on OUT1/OUT2. Applications with large output load transients require larger values of output capacitance to (See Datasheet)", 7 OUT2 (power) "Output. The OUT1/OUT2 pins supply power to the loads. A minimum 10uF/3.3uF output capacitor prevents oscillations on OUT1/OUT2. Applications with large output load transients require larger values of output capacitance to (See Datasheet)", 8 OUT2 (power) "Output. The OUT1/OUT2 pins supply power to the loads. A minimum 10uF/3.3uF output capacitor prevents oscillations on OUT1/OUT2. Applications with large output load transients require larger values of output capacitance to (See Datasheet)", 9 BYP2 "Bypass. Connecting a capacitor between OUT and BYP of a respective channel bypasses the LT3030 reference to achieve low noise performance, improve transient response and soft-start the output. Internal circuitry clamps the (See Datasheet)", 10 ADJ2 (in) "Adjust Pin. These are the error amplifier inputs. These pins are internally clamped to +/-9V. A typical input bias current of 30nA flows into the pins (see curve of ADJ1/ADJ2 Pin Bias Current vs Temperature in the Typical (See Datasheet)", 11 ~{SHDN2} (in) "Shutdown. Pulling the S\H\D\N\1\ or S\H\D\N\2\ pin low puts its corresponding LT3030 channel into a low power state and turns its output off. The S\H\D\N\1\ and S\H\D\N\2\ pins are completely independent of each other, and (See Datasheet)", 12 PWRGD2 (hiz) "Power Good. The PWRGD flag is an open-collector flag to indicate that the output voltage has increased above 90% of the nominal output voltage. There is no internal pull-up on this pin; a pull-up resistor must be used. The (See Datasheet)", 13 IN2 (power) "Input. The IN1/IN2 pins supply power to each channel. The LT3030 requires a bypass capacitor at the IN1/IN2 pins if located more than six inches away from the main input filter capacitor. Include a bypass capacitor in (See Datasheet)", 14 IN2 (power) "Input. The IN1/IN2 pins supply power to each channel. The LT3030 requires a bypass capacitor at the IN1/IN2 pins if located more than six inches away from the main input filter capacitor. Include a bypass capacitor in (See Datasheet)", 17 IN1 (power) "Input. The IN1/IN2 pins supply power to each channel. The LT3030 requires a bypass capacitor at the IN1/IN2 pins if located more than six inches away from the main input filter capacitor. Include a bypass capacitor in (See Datasheet)", 18 IN1 (power) "Input. The IN1/IN2 pins supply power to each channel. The LT3030 requires a bypass capacitor at the IN1/IN2 pins if located more than six inches away from the main input filter capacitor. Include a bypass capacitor in (See Datasheet)", 19 PWRGD1 (hiz) "Power Good. The PWRGD flag is an open-collector flag to indicate that the output voltage has increased above 90% of the nominal output voltage. There is no internal pull-up on this pin; a pull-up resistor must be used. The (See Datasheet)", 20 ~{SHDN1} (in) "Shutdown. Pulling the S\H\D\N\1\ or S\H\D\N\2\ pin low puts its corresponding LT3030 channel into a low power state and turns its output off. The S\H\D\N\1\ and S\H\D\N\2\ pins are completely independent of each other, and (See Datasheet)"
part B pins: 5 GND (power) "Ground. The exposed pad (backside) of the QFN and TSSOP packages is an electrical connection to GND. To ensure proper electrical and thermal performance, solder the exposed pad to the PCB ground and tie directly to GND pins. (See Datasheet)", 6 GND (power) "Ground. The exposed pad (backside) of the QFN and TSSOP packages is an electrical connection to GND. To ensure proper electrical and thermal performance, solder the exposed pad to the PCB ground and tie directly to GND pins. (See Datasheet)", 15 GND (power) "Ground. The exposed pad (backside) of the QFN and TSSOP packages is an electrical connection to GND. To ensure proper electrical and thermal performance, solder the exposed pad to the PCB ground and tie directly to GND pins. (See Datasheet)", 16 GND (power) "Ground. The exposed pad (backside) of the QFN and TSSOP packages is an electrical connection to GND. To ensure proper electrical and thermal performance, solder the exposed pad to the PCB ground and tie directly to GND pins. (See Datasheet)", 21 EP (power) "Ground. The exposed pad (backside) of the QFN and TSSOP packages is an electrical connection to GND. To ensure proper electrical and thermal performance, solder the exposed pad to the PCB ground and tie directly to GND pins. (See Datasheet)"

## LT3030EFE#TRPBF
designator U?
Dual 750 mA / 250 mA Low Dropout, Low Noise, Micropower Linear Regulator, 1.7 to 20 V Vin, Adjustable Vout, 20-pin SOP (FE-20-EPV-CB), -40 to 125 degC, Pb-Free, Tape and Reel; Manufacturer: Linear Technology; PartNumber: LT3030EFE#TRPBF; Discrete Pass Element: no; Dropout Voltage(V): 0.3; Iout(mA): 750; Isupply(mA): 15; Noise(uV): 20; Number of Outputs: 2; Output Voltage: Adj; PSRR(dB): 60; Vin Min(V): 1.7; Vout Max(V): 19.5; Vout Min(V): 1.22; DatasheetVersion: Rev. A; PackageVersion: Rev. I, 05/2011; PackageReference: FE-20; PackageDescription: 20-Pin Plastic TSSOP, Body 6.5 x 4.4 mm, Pitch 0.65 mm; Supplier 1: Digi-Key; Supplier Part Number 1: LT3030EFE#TRPBF-ND; Supplier 2: Newark; Supplier Part Number 2: 71W8562; Packing: Tape and Reel; RoHS: TRUE; Shutdown Current(uA): 0.3; Vin Max(V): 20; Mounting Technology: Surface Mount; ComponentLink1Description: Manufacturer URL; ComponentLink1URL: http://www.linear.com/; ComponentLink2Description: Datasheet; ComponentLink2URL: http://cds.linear.com/docs/en/datasheet/3030fa.pdf; ComponentLink3Description: Package Specification; ComponentLink3URL: http://cds.linear.com/docs/en/packaging/05081663__J_FE20(CB).pdf
footprint LT-FE-20-EPV-CB_N (SOP, 20-Leads, Body 6.6x4.5mm, Pitch 0.65mm, Thermal Pad 3.86x2.74mm, IPC Medium Density)
footprint LT-FE-20-EPV-CB_L (SOP, 20-Leads, Body 6.6x4.5mm, Pitch 0.65mm, Thermal Pad 3.86x2.74mm, IPC High Density)
footprint LT-FE-20-EPV-CB_M (SOP, 20-Leads, Body 6.6x4.5mm, Pitch 0.65mm, Thermal Pad 3.86x2.74mm, IPC Low Density)
part A pins: 1 ADJ1 (in) "Adjust Pin. These are the error amplifier inputs. These pins are internally clamped to +/-9V. A typical input bias current of 30nA flows into the pins (see curve of ADJ1/ADJ2 Pin Bias Current vs Temperature in the Typical (See Datasheet)", 2 BYP1 "Bypass. Connecting a capacitor between OUT and BYP of a respective channel bypasses the LT3030 reference to achieve low noise performance, improve transient response and soft-start the output. Internal circuitry clamps the (See Datasheet)", 3 OUT1 (power) "Output. The OUT1/OUT2 pins supply power to the loads. A minimum 10uF/3.3uF output capacitor prevents oscillations on OUT1/OUT2. Applications with large output load transients require larger values of output capacitance to (See Datasheet)", 4 OUT1 (power) "Output. The OUT1/OUT2 pins supply power to the loads. A minimum 10uF/3.3uF output capacitor prevents oscillations on OUT1/OUT2. Applications with large output load transients require larger values of output capacitance to (See Datasheet)", 7 OUT2 (power) "Output. The OUT1/OUT2 pins supply power to the loads. A minimum 10uF/3.3uF output capacitor prevents oscillations on OUT1/OUT2. Applications with large output load transients require larger values of output capacitance to (See Datasheet)", 8 OUT2 (power) "Output. The OUT1/OUT2 pins supply power to the loads. A minimum 10uF/3.3uF output capacitor prevents oscillations on OUT1/OUT2. Applications with large output load transients require larger values of output capacitance to (See Datasheet)", 9 BYP2 "Bypass. Connecting a capacitor between OUT and BYP of a respective channel bypasses the LT3030 reference to achieve low noise performance, improve transient response and soft-start the output. Internal circuitry clamps the (See Datasheet)", 10 ADJ2 (in) "Adjust Pin. These are the error amplifier inputs. These pins are internally clamped to +/-9V. A typical input bias current of 30nA flows into the pins (see curve of ADJ1/ADJ2 Pin Bias Current vs Temperature in the Typical (See Datasheet)", 11 ~{SHDN2} (in) "Shutdown. Pulling the S\H\D\N\1\ or S\H\D\N\2\ pin low puts its corresponding LT3030 channel into a low power state and turns its output off. The S\H\D\N\1\ and S\H\D\N\2\ pins are completely independent of each other, and (See Datasheet)", 12 PWRGD2 (hiz) "Power Good. The PWRGD flag is an open-collector flag to indicate that the output voltage has increased above 90% of the nominal output voltage. There is no internal pull-up on this pin; a pull-up resistor must be used. The (See Datasheet)", 13 IN2 (power) "Input. The IN1/IN2 pins supply power to each channel. The LT3030 requires a bypass capacitor at the IN1/IN2 pins if located more than six inches away from the main input filter capacitor. Include a bypass capacitor in (See Datasheet)", 14 IN2 (power) "Input. The IN1/IN2 pins supply power to each channel. The LT3030 requires a bypass capacitor at the IN1/IN2 pins if located more than six inches away from the main input filter capacitor. Include a bypass capacitor in (See Datasheet)", 17 IN1 (power) "Input. The IN1/IN2 pins supply power to each channel. The LT3030 requires a bypass capacitor at the IN1/IN2 pins if located more than six inches away from the main input filter capacitor. Include a bypass capacitor in (See Datasheet)", 18 IN1 (power) "Input. The IN1/IN2 pins supply power to each channel. The LT3030 requires a bypass capacitor at the IN1/IN2 pins if located more than six inches away from the main input filter capacitor. Include a bypass capacitor in (See Datasheet)", 19 PWRGD1 (hiz) "Power Good. The PWRGD flag is an open-collector flag to indicate that the output voltage has increased above 90% of the nominal output voltage. There is no internal pull-up on this pin; a pull-up resistor must be used. The (See Datasheet)", 20 ~{SHDN1} (in) "Shutdown. Pulling the S\H\D\N\1\ or S\H\D\N\2\ pin low puts its corresponding LT3030 channel into a low power state and turns its output off. The S\H\D\N\1\ and S\H\D\N\2\ pins are completely independent of each other, and (See Datasheet)"
part B pins: 5 GND (power) "Ground. The exposed pad (backside) of the QFN and TSSOP packages is an electrical connection to GND. To ensure proper electrical and thermal performance, solder the exposed pad to the PCB ground and tie directly to GND pins. (See Datasheet)", 6 GND (power) "Ground. The exposed pad (backside) of the QFN and TSSOP packages is an electrical connection to GND. To ensure proper electrical and thermal performance, solder the exposed pad to the PCB ground and tie directly to GND pins. (See Datasheet)", 15 GND (power) "Ground. The exposed pad (backside) of the QFN and TSSOP packages is an electrical connection to GND. To ensure proper electrical and thermal performance, solder the exposed pad to the PCB ground and tie directly to GND pins. (See Datasheet)", 16 GND (power) "Ground. The exposed pad (backside) of the QFN and TSSOP packages is an electrical connection to GND. To ensure proper electrical and thermal performance, solder the exposed pad to the PCB ground and tie directly to GND pins. (See Datasheet)", 21 EP (power) "Ground. The exposed pad (backside) of the QFN and TSSOP packages is an electrical connection to GND. To ensure proper electrical and thermal performance, solder the exposed pad to the PCB ground and tie directly to GND pins. (See Datasheet)"